# Altium footprint library CH340T.PcbLib: 1 footprints
Each footprint in its own frame and in the unit in brackets; x right, y up, seen from the top. Pads: shape width x height; smd on the part's side, far side on the other; paste and mask are expansions set on the pad; w line width, h text height; cw(c..) or ccw(c..) is an arc to the next point about the centre after c.
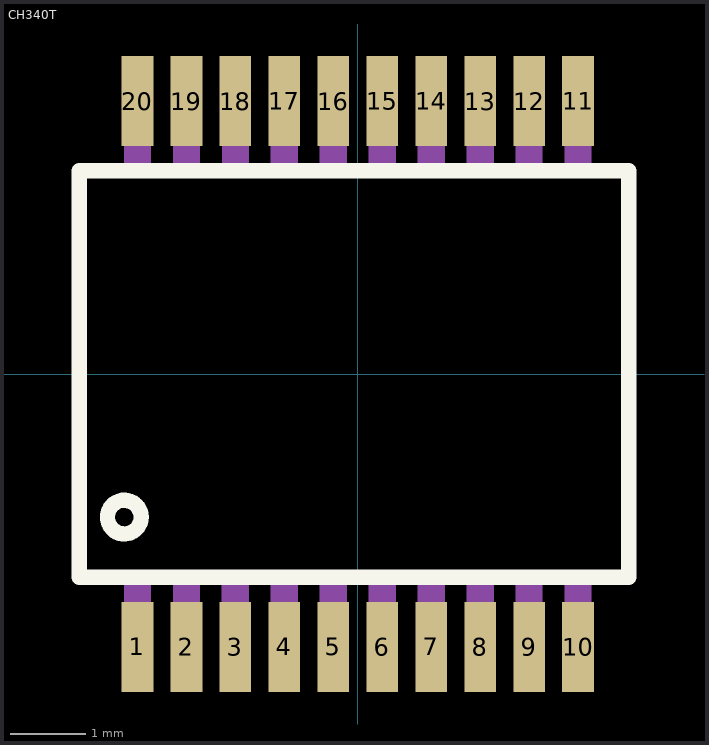
[diagram p0: the footprint, top view; thin cyan lines are the x and y axes]

## CH340T [mm]
pads (20):
  rect 0.42x1.2 smd: 1(-2.925,-3.625) 2(-2.275,-3.625) 3(-1.625,-3.625) 4(-0.975,-3.625) 5(-0.325,-3.625) 6(0.325,-3.625) 7(0.975,-3.625) 8(1.625,-3.625) 9(2.275,-3.625) 10(2.925,-3.625) 11(2.925,3.625) 12(2.275,3.625) 13(1.625,3.625) 14(0.975,3.625) 15(0.325,3.625) 16(-0.325,3.625) 17(-0.975,3.625) 18(-1.625,3.625) 19(-2.275,3.625) 20(-2.925,3.625)
Top Overlay:
  circle w0.203: c-3.1,-1.9 r0.224
  lines w0.203: -3.7,-2.7 3.6,-2.7 3.6,2.7 -3.7,2.7 -3.7,-2.7
Assembly Top:
  region: -2.747,-3.937 -3.103,-3.937 -3.103,-2.642 -2.747,-2.642
  region: -2.097,-3.937 -2.453,-3.937 -2.453,-2.642 -2.097,-2.642
  region: -1.447,-3.937 -1.803,-3.937 -1.803,-2.642 -1.447,-2.642
  region: -0.797,-3.937 -1.153,-3.937 -1.153,-2.642 -0.797,-2.642
  region: -0.147,-3.937 -0.503,-3.937 -0.503,-2.642 -0.147,-2.642
  region: 0.503,-3.937 0.147,-3.937 0.147,-2.642 0.503,-2.642
  region: 1.153,-3.937 0.797,-3.937 0.797,-2.642 1.153,-2.642
  region: 1.803,-3.937 1.447,-3.937 1.447,-2.642 1.803,-2.642
  region: 2.453,-3.937 2.097,-3.937 2.097,-2.642 2.453,-2.642
  region: 3.103,-3.937 2.747,-3.937 2.747,-2.642 3.103,-2.642
  region: 3.103,2.642 2.747,2.642 2.747,3.937 3.103,3.937
  region: 2.453,2.642 2.097,2.642 2.097,3.937 2.453,3.937
  region: 1.803,2.642 1.447,2.642 1.447,3.937 1.803,3.937
  region: 1.153,2.642 0.797,2.642 0.797,3.937 1.153,3.937
  region: 0.503,2.642 0.147,2.642 0.147,3.937 0.503,3.937
  region: -0.147,2.642 -0.503,2.642 -0.503,3.937 -0.147,3.937
  region: -0.797,2.642 -1.153,2.642 -1.153,3.937 -0.797,3.937
  region: -1.447,2.642 -1.803,2.642 -1.803,3.937 -1.447,3.937
  region: -2.097,2.642 -2.453,2.642 -2.453,3.937 -2.097,3.937
  region: -2.747,2.642 -3.103,2.642 -3.103,3.937 -2.747,3.937
3D body "step_temp.STEP": height 1.6, standoff 0, extent -3.6,-3.85 3.6,3.85